# Altium schematic symbol library Relay.SchLib: 11 symbols
Pins are listed as number, name and electrical type; pins without a type are passive.

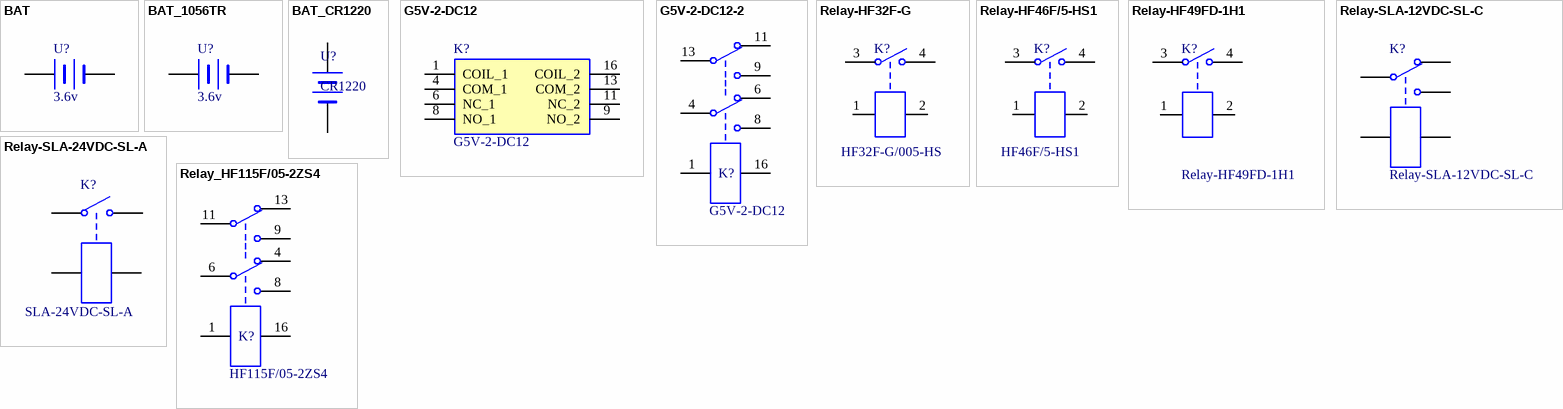
[diagram p0: symbols BAT to Relay_HF115F/05-2ZS4]

## BAT
designator U?, comment 3.6v
Battery
footprint BAT1
pins: 1 +, 2 -
2 alternate drawings of the same symbol

## BAT_1056TR
designator U?, comment 3.6v
1056TR; ComponentLink1Description: 经销商; ComponentLink1URL: https://item.szlcsc.com/237316.html
footprint BAT_1056TR
pins: 1 +, 2 -
2 alternate drawings of the same symbol

## BAT_CR1220
designator U?, comment CR1220
CR1220卧式
footprint BAT_CR1220 (CR1220卧式)
pins: 1 +, 2 -

## G5V-2-DC12
designator K?
小功率继电器; Manufacturer_Name: Omron Electronics; Allied_Number: 70176230; Geometry.Height: 11mm; Manufacturer_Part_Number: G5V-2-DC12; Mouser Part Number: 653-G5V-2-DC12; Mouser Price/Stock: https://www.mouser.com/Search/Refine.aspx?Keyword=653-G5V-2-DC12; RS Part Number: *; RS Price/Stock: *; Allied Price/Stock: https://www.alliedelec.com/omronelectroniccomponents-g5v-2-dc12/70176230/; Datasheet Link: https://omronfs.omron.com/en_US/ecb/products/pdf/en-g5v2.pdf; ComponentLink1Description: 销售商; ComponentLink1URL: https://item.szlcsc.com/28839.html; ComponentLink2Description: 生产商; ComponentLink2URL: https://www.ecb.omron.com.cn/parametric-search?nodeId=1701010&nodeParentId=17010
footprint G5V2H1DC9
pins: 1 COIL_1, 4 COM_1, 6 NC_1, 8 NO_1, 9 NO_2, 11 NC_2, 13 COM_2, 16 COIL_2

## G5V-2-DC12-2
designator K?, comment G5V-2-DC12
OMRON; Published: 24-Mar-1999; LatestRevisionDate: 17-Jul-2002; LatestRevisionNote: Re-released for DXP Platform.; PackageReference: MODULE5B; Publisher: Altium Limited
footprint G5V2H1DC9
pins: 1 COIL, 4 COM1, 6 NC1, 8 NO1, 9 NO2, 11 NC2, 13 COM2, 16 COIL

## Relay-HF32F-G 
designator K?, comment HF32F-G/005-HS
宏发继电器; Published: 24-Mar-1999; LatestRevisionDate: 17-Jul-2002; LatestRevisionNote: Re-released for DXP Platform.; PackageReference: MODULE5B; Publisher: Altium Limited; ComponentLink1Description: 制造商链接; ComponentLink1URL: http://cn.hongfa.com/pro/html/HF49FD_I_cn.html
footprint HF32F-H
pins: 1, 2, 3, 4

## Relay-HF46F/5-HS1
designator K?, comment HF46F/5-HS1
宏发继电器; Published: 24-Mar-1999; LatestRevisionDate: 17-Jul-2002; LatestRevisionNote: Re-released for DXP Platform.; PackageReference: MODULE5B; Publisher: Altium Limited; ComponentLink1Description: 制造商链接; ComponentLink1URL: http://cn.hongfa.com/pro/html/HF49FD_I_cn.html
footprint HF46F
pins: 1, 2, 3, 4

## Relay-HF49FD-1H1
designator K?
Published: 24-Mar-1999; LatestRevisionDate: 17-Jul-2002; LatestRevisionNote: Re-released for DXP Platform.; PackageReference: MODULE5B; Publisher: Altium Limited; ComponentLink1Description: 制造商链接; ComponentLink1URL: http://cn.hongfa.com/pro/html/HF49FD_I_cn.html
footprint HF49FD-1H1
pins: 1, 2, 3, 4

## Relay-SLA-12VDC-SL-C
designator K?
SLA-12VDC-SL-C转换型; Published: 24-Mar-1999; LatestRevisionDate: 17-Jul-2002; LatestRevisionNote: Re-released for DXP Platform.; PackageReference: MODULE5B; Publisher: Altium Limited; ComponentLink1Description: 产品链接; ComponentLink1URL: http://www.songlerelay.com/Product_show_id_120.htm
footprint RELAY_SLA-12VDC-SL-C -5P
pins: 1, 2, 3, 4, 5

## Relay-SLA-24VDC-SL-A
designator K?, comment SLA-24VDC-SL-A
SLA-24VDC-SL-A /30A; Published: 24-Mar-1999; LatestRevisionDate: 17-Jul-2002; LatestRevisionNote: Re-released for DXP Platform.; PackageReference: MODULE5B; Publisher: Altium Limited; ComponentLink1Description: 产品链接; ComponentLink1URL: http://www.songlerelay.com/Product_show_id_120.htm
footprint RELAY_SLA-24VDC-SL-A
pins: 1, 3, 4, 5

## Relay_HF115F/05-2ZS4
designator K?, comment HF115F/05-2ZS4
COIL:DC5V;8A 250VAC; Published: 24-Mar-1999; LatestRevisionDate: 17-Jul-2002; LatestRevisionNote: Re-released for DXP Platform.; PackageReference: MODULE5B; Publisher: Altium Limited
footprint HF115F/005-2ZS4
pins: 1 COIL, 4 NC1, 6 COM1, 8 NO1, 9 NO2, 11 COM2, 13 NC2, 16 COIL